# EAGLE library part A4973SB-T (library shield_flotador)
Full-Bridge PWM Motor Driver
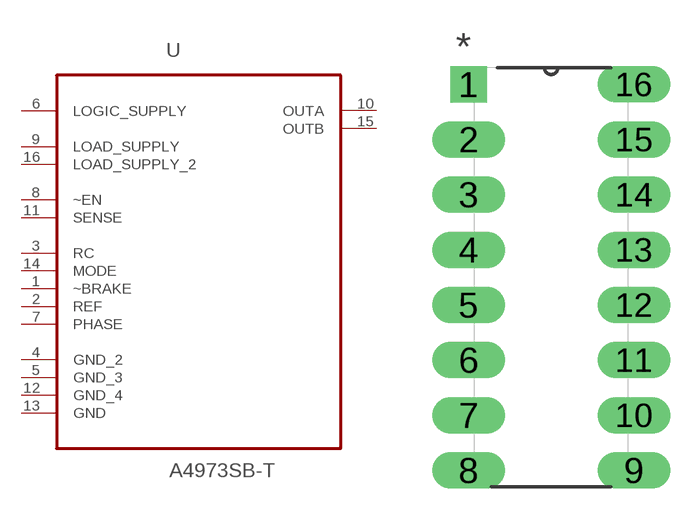
[diagram p2: symbol with the pads of DIP254P762X533-16; footprint DIP254P762X533-16]

Designator prefix U

## A4973SB-T (MPN: A4973SB-T; OC_FARNELL: 1193497; OC_NEWARK: 08J5866; PACKAGE: PDIP-16; SUPPLIER: Allegro)  [DIP254P762X533-16]
1  ~BRAKE  in
2  REF  in
3  RC  in
4  GND_2  pas
5  GND_3  pas
6  LOGIC_SUPPLY  pwr
7  PHASE  in
8  ~EN  in
9  LOAD_SUPPLY  pwr
10  OUTA  out
11  SENSE  in
12  GND_4  pas
13  GND  pas
14  MODE  in
15  OUTB  out
16  LOAD_SUPPLY_2  pwr

## Footprint DIP254P762X533-16 (pad centres in mm)
drill 1.118 square: 1 -7.62,17.78
drill 1.118 long: 2 -7.62,15.24; 3 -7.62,12.7; 4 -7.62,10.16; 5 -7.62,7.62; 6 -7.62,5.08; 7 -7.62,2.54; 8 -7.62,0; 9 0,0; 10 0,2.54; 11 0,5.08; 12 0,7.62; 13 0,10.16; 14 0,12.7; 15 0,15.24; 16 0,17.78